# Altium footprint library PcbLib1.PcbLib: 12 footprints
Each footprint in its own frame and in the unit in brackets; x right, y up, seen from the top. Pads: shape width x height; smd on the part's side, far side on the other; paste and mask are expansions set on the pad; w line width, h text height; cw(c..) or ccw(c..) is an arc to the next point about the centre after c.
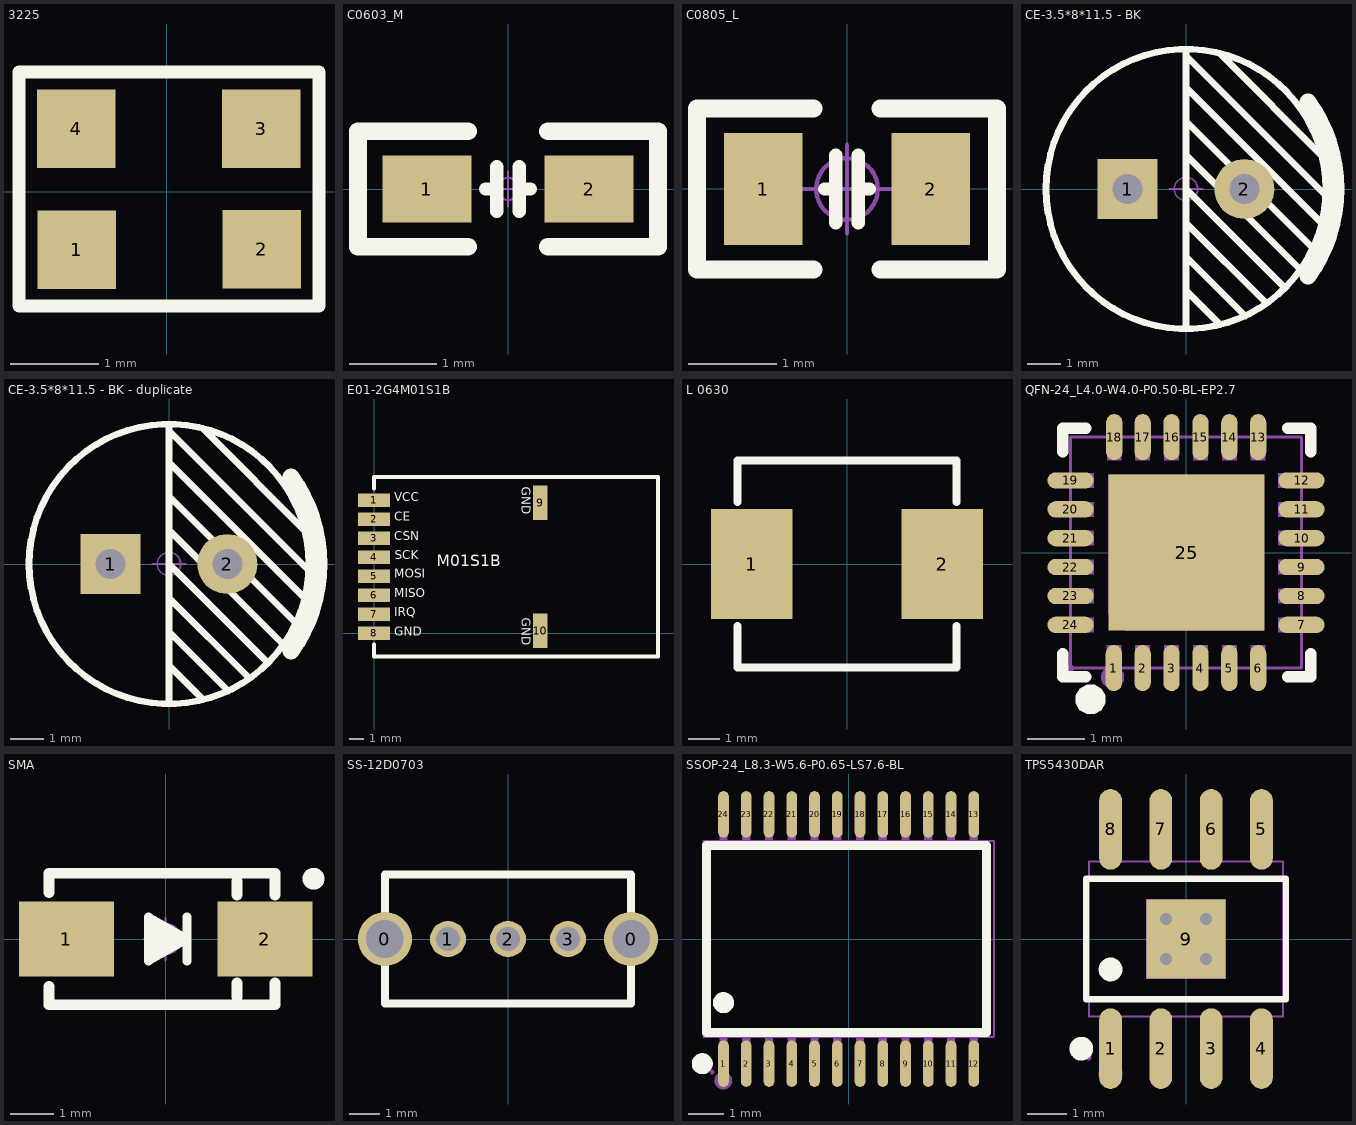
[diagram p0: the footprints below, top view; thin cyan lines are the x and y axes]

## 3225 [mil]
height 23.62
pads (4):
  rect 35x35 smd: 1(-40.24,-25.97) 2(42.36,-25.67) 3(42.16,28.03) 4(-40.44,28.03)
Top Overlay:
  lines w5.91: -65.99,-51.04 -65.99,53.29 67.87,53.29 67.87,-51.04 -65.99,-51.04
3D body "User Library-tsx-3225-1.sldprt": height 23.62, standoff 0, extent -62.99,-47.24 62.99,51.18

## C0603_M [mil] "无极性贴片电容"
height 23.62
pads (2):
  rect 40x30 smd: 1(-36.5,0) 2(36.5,0)
Top Overlay:
  lines w6: -10,0 -5,0 ; -5,-10 -5,10 ; 5,-10 5,10 ; 5,0 10,0
  lines w8: -18,-26 -67.5,-26 -67.5,26 -18,26 ; 18,-26 67.5,-26 67.5,26 18,26
Mechanical 15:
  circle w1: c0,0 r5
  lines w1: -7.87,0 7.87,0 ; 0,-7.87 0,7.87
3D body "c_0603.STEP": height 32.89, standoff 0.61, extent -31.49,-16.14 31.51,16.14

## C0805_L [mil] "无极性贴片电容"
height 19.68
pads (2):
  rect 35x50 smd: 1(-37.4,0) 2(37.4,0)
Top Overlay:
  lines w6: -10,0 -5,0 ; -5,-15 -5,15 ; 5,-15 5,15 ; 5,0 10,0
  lines w8: -15,-36 -66.93,-36 -66.93,36 -15,36 ; 15,-36 66.93,-36 66.93,36 15,36
Mechanical 15:
  circle w1.97: c0,0 r13.78
  circle w1.97: c0,0 r13.78
  lines w1.97: -19.68,0 19.68,0 -19.68,0 ; 0,-19.68 0,19.68 0,-19.68
3D body "c_0805.STEP": height 21.08, standoff 0.61, extent -39.36,-24.01 39.38,24.02

## CE-3.5*8*11.5 - BK [mm] "脚距3.5mm直径8mm高度11.5mm"
height 0.6
pads (2):
  rect 1.8x1.8 hole 0.9: 1(-1.75,0)
  round 1.8 hole 0.9: 2(1.75,0)
Top Overlay:
  circle w0.2: c0,0 r4.2
  lines w0.2: 0,-4.191 0,4 ; 0,-3.048 1.016,-4.064 ; 0,-2.032 1.778,-3.81 ; 0,-1.016 2.413,-3.429 ; 0,0 2.921,-2.921 ; 0,1.016 3.429,-2.413 ; 0,2.032 3.81,-1.778 ; 0,3.048 4.064,-1.016 ; 0,4.191 0,4 ; 1.016,4.064 4.191,0.889 ; 4.191,-0.127 4.127,-0.127 0,4
  lines w0.504: 3.663,-2.616 ccw(c0,0) 3.663,2.616
Mechanical 15:
  circle w0.05: c0,0 r0.35
  lines w0.05: -0.5,0 0.5,0 ; 0,-0.5 0,0.5
3D body "CE_TH_3_5x8x11_5.STEP": height 11.64, standoff -3.27, extent -4,-3.999 4.01,4

## CE-3.5*8*11.5 - BK - duplicate [mm] "脚距3.5mm直径8mm高度11.5mm"
height 0.6
pads (2):
  rect 1.8x1.8 hole 0.9: 1(-1.75,0)
  round 1.8 hole 0.9: 2(1.75,0)
Top Overlay:
  circle w0.2: c0,0 r4.2
  lines w0.2: 0,-4.191 0,4 ; 0,-3.048 1.016,-4.064 ; 0,-2.032 1.778,-3.81 ; 0,-1.016 2.413,-3.429 ; 0,0 2.921,-2.921 ; 0,1.016 3.429,-2.413 ; 0,2.032 3.81,-1.778 ; 0,3.048 4.064,-1.016 ; 0,4.191 0,4 ; 1.016,4.064 4.191,0.889 ; 4.191,-0.127 4.127,-0.127 0,4
  lines w0.504: 3.663,-2.616 ccw(c0,0) 3.663,2.616
Mechanical 15:
  circle w0.05: c0,0 r0.35
  lines w0.05: -0.5,0 0.5,0 ; 0,-0.5 0,0.5
3D body "CE_TH_3_5x8x11_5.STEP": height 11.64, standoff -3.27, extent -4,-3.999 4.01,4

## E01-2G4M01S1B [mm]
pads (10):
  rect 2.15x0.9 smd: 1(0,8.89) 2(0,7.62) 3(0,6.35) 4(0,5.08) 5(0,3.81) 6(0,2.54) 7(0,1.27) 8(0,0)
  rect 0.974x2.31 smd: 9(11.116,8.721) 10(11.116,0.169)
Top Overlay:
  lines w0.254: 0,-0.762 0,-1.56 19,-1.56 19,10.45 0,10.45 0,9.652
  text "M01S1B" at 4.191,4.191 h1.3
  text "VCC" at 1.366,8.611 h1
  text "CE" at 1.366,7.311 h1
  text "CSN" at 1.366,6.011 h1
  text "SCK" at 1.372,4.75 h1
  text "MOSI" at 1.366,3.511 h1
  text "MISO" at 1.366,2.211 h1
  text "IRQ" at 1.366,0.911 h1
  text "GND" at 1.366,-0.389 h1
  text "GND" at 9.677,1.041 h1
  text "GND" at 9.677,9.804 h1

## L 0630 [mm]
height 0.6
pads (2):
  rect 2.6x3.5 smd: 1(-3.035,0) 2(3.035,0)
Top Overlay:
  lines w0.254: -3.5,-1.981 -3.5,-3.3 3.5,-3.3 3.5,-1.981 ; -3.5,1.981 -3.5,3.3 3.5,3.3 3.5,1.981

## QFN-24_L4.0-W4.0-P0.50-BL-EP2.7 [mm]
pads (25):
  oval 0.28x0.8 smd paste-100 mask+0.05: 1(-1.25,-2) 2(-0.75,-2) 3(-0.25,-2) 4(0.25,-2) 5(0.75,-2) 6(1.25,-2) 13(1.25,2) 14(0.75,2) 15(0.25,2) 16(-0.25,2) 17(-0.75,2) 18(-1.242,2)
  oval 0.8x0.28 smd paste-100 mask+0.05: 7(2,-1.25) 8(2,-0.75) 9(2,-0.25) 10(2,0.25) 11(2,0.75) 12(2,1.25) 19(-2,1.25) 20(-2,0.75) 21(-2,0.25) 22(-2,-0.25) 23(-2,-0.75) 24(-2,-1.25)
  rect 2.7x2.7 smd paste-100 mask+0.05: 25(0.012,0)
Top Overlay:
  region: -1.397,-2.539 -1.397,-2.471 -1.466,-2.353 -1.584,-2.286 -1.72,-2.286 -1.837,-2.354 -1.905,-2.472 -1.905,-2.608 -1.837,-2.726 -1.72,-2.794 -1.584,-2.794 -1.466,-2.727 -1.397,-2.609 -1.397,-2.541
  lines w0.2: -2.138,-1.75 -2.138,-2.15 -1.738,-2.15 ; -2.138,1.75 -2.138,2.15 -1.738,2.15 ; 1.763,-2.15 2.163,-2.15 2.163,-1.75 ; 1.763,2.15 2.163,2.15 2.163,1.75
Top Paste:
  drawing of 25 lines, arcs and shapes, not listed
Mechanical 6:
  circle w0.2: c-1.27,-2.159 r0.1
Mechanical 15:
  region: -1.375,-2 -1.375,-1.6 -1.125,-1.6 -1.125,-2
  region: -0.875,-2 -0.875,-1.6 -0.625,-1.6 -0.625,-2
  region: -0.375,-2 -0.375,-1.6 -0.125,-1.6 -0.125,-2
  region: 0.125,-2 0.125,-1.6 0.375,-1.6 0.375,-2
  region: 0.625,-2 0.625,-1.6 0.875,-1.6 0.875,-2
  region: 1.125,-2 1.125,-1.6 1.375,-1.6 1.375,-2
  region: 1.6,-1.375 1.6,-1.125 2,-1.125 2,-1.375
  region: 1.6,-0.875 1.6,-0.625 2,-0.625 2,-0.875
  region: 1.6,-0.375 1.6,-0.125 2,-0.125 2,-0.375
  region: 1.6,0.125 1.6,0.375 2,0.375 2,0.125
  region: 1.6,0.625 1.6,0.875 2,0.875 2,0.625
  region: 1.6,1.125 1.6,1.375 2,1.375 2,1.125
  region: 1.125,1.6 1.125,2 1.375,2 1.375,1.6
  region: 0.625,1.6 0.625,2 0.875,2 0.875,1.6
  region: 0.125,1.6 0.125,2 0.375,2 0.375,1.6
  region: -0.375,1.6 -0.375,2 -0.125,2 -0.125,1.6
  region: -0.875,1.6 -0.875,2 -0.625,2 -0.625,1.6
  region: -1.367,1.6 -1.367,2 -1.117,2 -1.117,1.6
  region: -2,1.125 -2,1.375 -1.6,1.375 -1.6,1.125
  region: -2,0.625 -2,0.875 -1.6,0.875 -1.6,0.625
  region: -2,0.125 -2,0.375 -1.6,0.375 -1.6,0.125
  region: -2,-0.375 -2,-0.125 -1.6,-0.125 -1.6,-0.375
  region: -2,-0.875 -2,-0.625 -1.6,-0.625 -1.6,-0.875
  region: -2,-1.375 -2,-1.125 -1.6,-1.125 -1.6,-1.375
  region: -1.35,-1.05 -1.35,1.35 1.35,1.35 1.35,-1.35 -1.05,-1.35
  region: -1.94,-2 -1.94,-1.975 -1.975,-1.94 -2.025,-1.94 -2.06,-1.975 -2.06,-2 -2.06,-2.025 -2.025,-2.06 -1.975,-2.06 -1.94,-2.025
  lines w0.051: -2,-2 2,-2 2,2 -2,2 -2,-2

## SMA [mm] "4.5x2.6*2.2mm（长宽高，不包括引脚）"
height 2.54
pads (2):
  rect 2.2x1.75 smd: 1(-2.3,0) 2(2.3,0)
Top Overlay:
  circle w0.254: c3.429,1.397 r0.127
  lines w0.203: 0.494,-0.508 0.494,0.508 ; -0.395,-0.508 0.494,0 -0.395,0.508 -0.395,-0.508
  lines w0.254: -2.7,-1.105 -2.7,-1.524 2.54,-1.524 2.54,-1.016 ; -2.7,1.08 -2.7,1.524 2.54,1.524 2.54,1.016 ; -0.33,0.305 0.305,0 -0.254,-0.305 -0.254,0.051 0.023,0 ; 1.651,-1.35 1.651,-1.016 ; 1.651,1.016 1.651,1.35
Mechanical 15:
  circle w0.05: c0,0 r0.35
  lines w0.05: -0.5,0 0.5,0 ; 0,-0.5 0,0.5
3D body "SMA.stp": height 2.15, standoff 0.05, extent -2.552,-1.3 2.552,1.3

## SS-12D0703 [mm]
pads (5):
  round 1.8 hole 1.25: 0(-4.1,0) 0(4.1,0)
  round 1.2 hole 0.8: 1(-2,0) 2(0,0) 3(2,0)
Top Overlay:
  lines w0.254: -4.1,0 -4.064,0 ; 4.1,0 4.1,2.15 ; 4.1,2.15 4.1,-2.15 -4.1,-2.15 -4.1,2.15 4.1,2.15

## SSOP-24_L8.3-W5.6-P0.65-LS7.6-BL [mm]
pads (24):
  oval 0.308x1.324 smd: 1(-3.575,-3.562) 2(-2.925,-3.562) 3(-2.275,-3.562) 4(-1.625,-3.562) 5(-0.975,-3.562) 6(-0.325,-3.562) 7(0.325,-3.562) 8(0.975,-3.562) 9(1.625,-3.562) 10(2.275,-3.562) 11(2.925,-3.562) 12(3.575,-3.562) 13(3.575,3.562) 14(2.925,3.562) 15(2.275,3.562) 16(1.625,3.562) 17(0.975,3.562) 18(0.325,3.562) 19(-0.325,3.562) 20(-0.975,3.562) 21(-1.625,3.562) 22(-2.275,3.562) 23(-2.925,3.562) 24(-3.575,3.562)
Top Overlay:
  circle w0.3: c-3.575,-1.819 r0.15
  circle w0.3: c-4.181,-3.562 r0.15
  lines w0.254: -4.064,-2.667 -4.064,2.667 3.937,2.667 3.937,-2.667 -4.064,-2.667
Mechanical 6:
  circle w0.254: c-3.582,-4.046 r0.127
Mechanical 15:
  drawing of 53 lines, arcs and shapes, not listed

## TPS5430DAR [mil]
pads (9):
  oval 22.6x80.2 smd mask+2: 1(-75,-109) 2(-25,-109) 3(25,-109) 4(75,-109) 5(75,109) 6(25,109) 7(-25,109) 8(-75,109)
  rect 78.7x78.7 smd mask+2: 9(0,0)
via 19.7,-19.7 diameter 24 hole 12
via -19.7,-19.7 diameter 24 hole 12
via -19.7,19.7 diameter 24 hole 12
via 19.7,19.7 diameter 24 hole 12
Top Overlay:
  circle w11.8: c-104.1,-109 r5.9
  circle w11.8: c-75,-30.3 r5.9
  lines w6: -99.5,-59.9 99.5,-59.9 99.5,59.9 -99.5,59.9 -99.5,-59.9
Mechanical 6:
  circle w11.8: c-75,-133.9 r5.9
Mechanical 15:
  region: -39.4,-39.4 -39.4,39.4 39.4,39.4 39.4,-39.4
  region: 66.9,85.6 66.9,76.4 83.1,76.4 83.1,85.6
  region: 66.9,118.1 66.9,85.2 83.1,85.2 83.1,118.1
  region: 16.9,85.6 16.9,76.4 33.1,76.4 33.1,85.6
  region: 16.9,118.1 16.9,85.2 33.1,85.2 33.1,118.1
  region: -33.1,85.6 -33.1,76.4 -16.9,76.4 -16.9,85.6
  region: -33.1,118.1 -33.1,85.2 -16.9,85.2 -16.9,118.1
  region: -83.1,85.6 -83.1,76.4 -66.9,76.4 -66.9,85.6
  region: -83.1,118.1 -83.1,85.2 -66.9,85.2 -66.9,118.1
  region: 66.9,-85.6 66.9,-76.4 83.1,-76.4 83.1,-85.6
  region: 66.9,-118.1 66.9,-85.2 83.1,-85.2 83.1,-118.1
  region: 16.9,-85.6 16.9,-76.4 33.1,-76.4 33.1,-85.6
  region: 16.9,-118.1 16.9,-85.2 33.1,-85.2 33.1,-118.1
  region: -33.1,-85.6 -33.1,-76.4 -16.9,-76.4 -16.9,-85.6
  region: -33.1,-118.1 -33.1,-85.2 -16.9,-85.2 -16.9,-118.1
  region: -83.1,-85.6 -83.1,-76.4 -66.9,-76.4 -66.9,-85.6
  region: -83.1,-118.1 -83.1,-85.2 -66.9,-85.2 -66.9,-118.1
  region: -94.1,-118.1 -94.1,-117.11 -95.51,-115.7 -97.49,-115.7 -98.9,-117.11 -98.9,-118.1 -98.9,-119.09 -97.49,-120.5 -95.51,-120.5 -94.1,-119.09 -94.1,-118.1
  lines w2: -96.5,-76.8 96.5,-76.8 96.5,76.8 -96.5,76.8 -96.5,-76.8